# Altium footprint library 3.23-LCC封装.PcbLib: 82 footprints (part 2 of 6)
Each footprint in its own frame and in the unit in brackets; x right, y up, seen from the top. Pads: shape width x height; smd on the part's side, far side on the other; paste and mask are expansions set on the pad; w line width, h text height; cw(c..) or ccw(c..) is an arc to the next point about the centre after c.
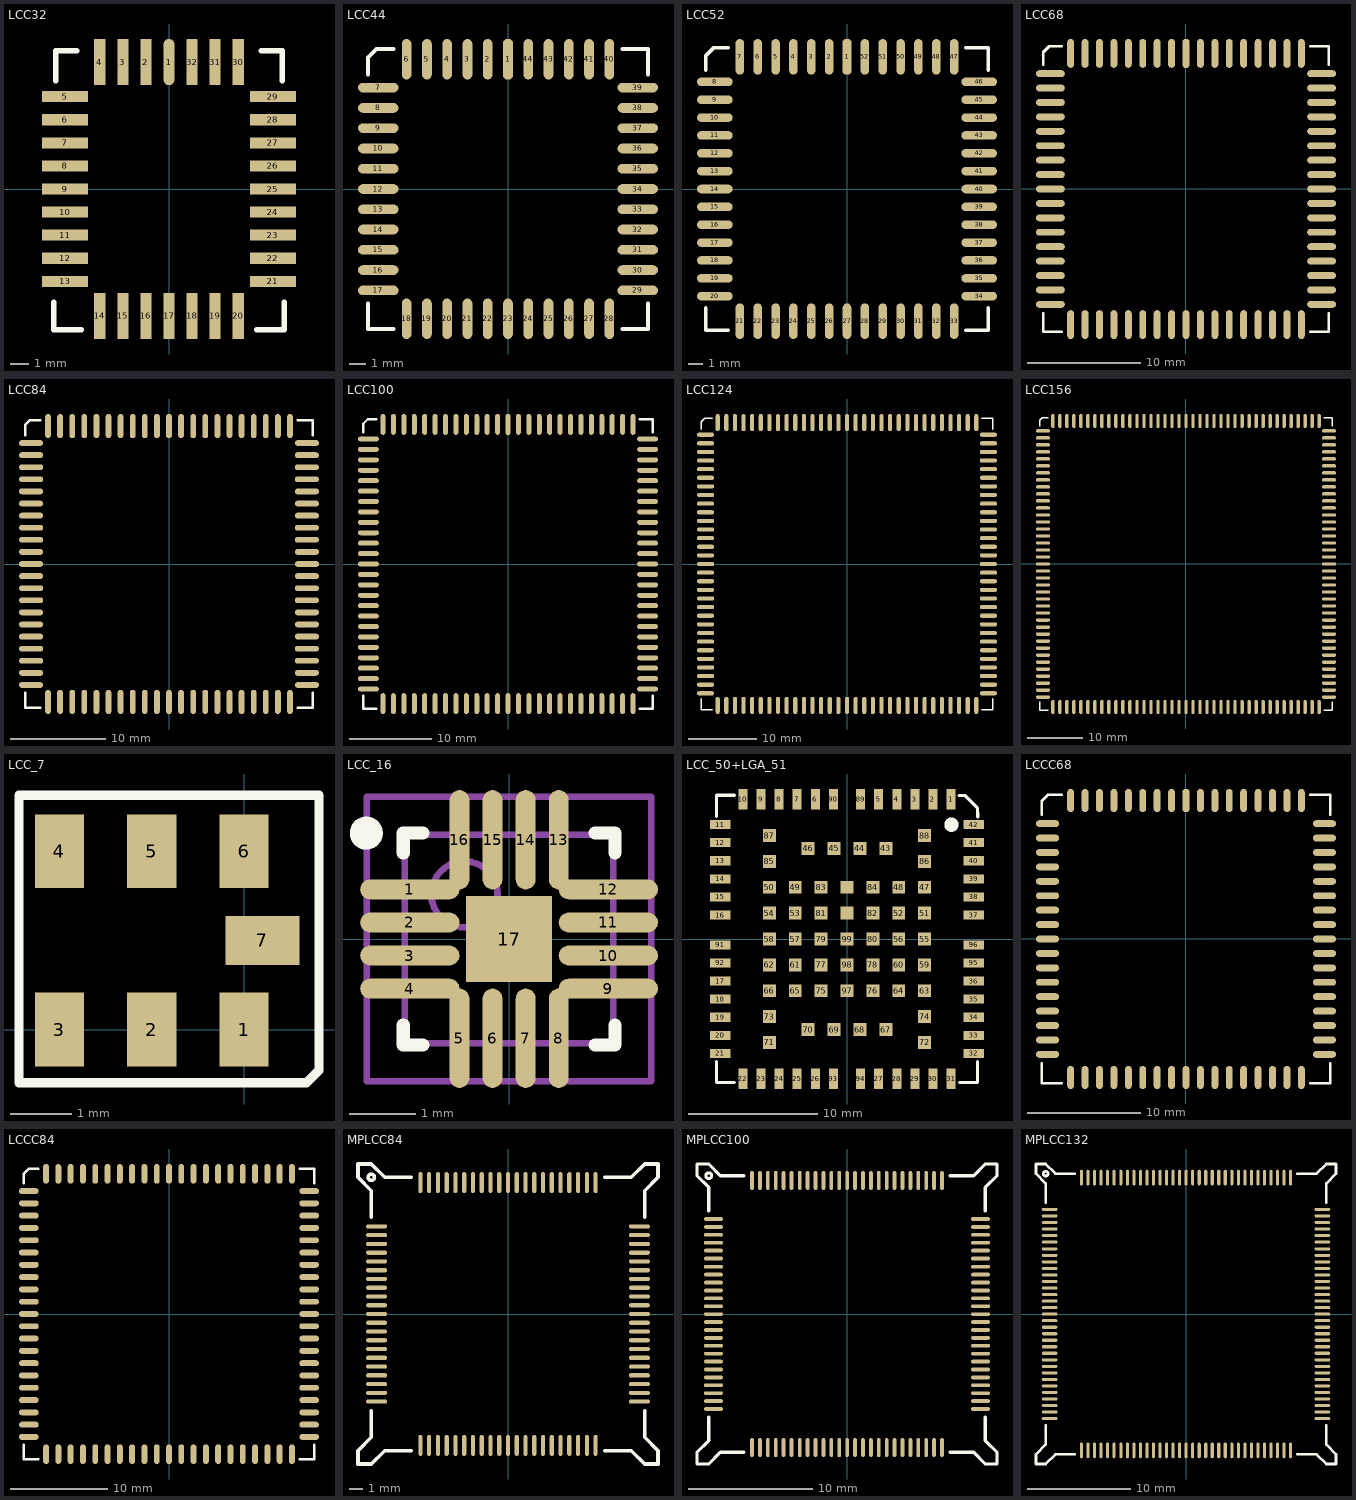
[diagram p1: the footprints below, top view; thin cyan lines are the x and y axes]

## LCC32 [mil]
pads (32):
  oval 24x100 smd: 1(0,275)
  rect 24x100 smd: 2(-50,275) 3(-100,275) 4(-150,275) 14(-150,-275) 15(-100,-275) 16(-50,-275) 17(0,-275) 18(50,-275) 19(100,-275) 20(150,-275) 30(150,275) 31(100,275) 32(50,275)
  rect 100x24 smd: 5(-225,200) 6(-225,150) 7(-225,100) 8(-225,50) 9(-225,0) 10(-225,-50) 11(-225,-100) 12(-225,-150) 13(-225,-200) 21(225,-200) 22(225,-150) 23(225,-100) 24(225,-50) 25(225,0) 26(225,50) 27(225,100) 28(225,150) 29(225,200)
Top Overlay:
  lines w12: -250,-245 -250,-305 -190,-305 ; -245,235 -245,300 -200,300 ; 190,-305 250,-305 250,-245 ; 200,300 245,300 245,235

## LCC44 [mil]
pads (44):
  oct 24x100 smd: 1(0,320)
  oval 24x100 smd: 2(-50,320) 3(-100,320) 4(-150,320) 5(-200,320) 6(-250,320) 18(-250,-320) 19(-200,-320) 20(-150,-320) 21(-100,-320) 22(-50,-320) 23(0,-320) 24(50,-320) 25(100,-320) 26(150,-320) 27(200,-320) 28(250,-320) 40(250,320) 41(200,320) 42(150,320) 43(100,320) 44(50,320)
  oval 100x24 smd: 7(-320,250) 8(-320,200) 9(-320,150) 10(-320,100) 11(-320,50) 12(-320,0) 13(-320,-50) 14(-320,-100) 15(-320,-150) 16(-320,-200) 17(-320,-250) 29(320,-250) 30(320,-200) 31(320,-150) 32(320,-100) 33(320,-50) 34(320,0) 35(320,50) 36(320,100) 37(320,150) 38(320,200) 39(320,250)
Top Overlay:
  lines w10: -345,-282 -345,-345 -282,-345 ; -345,282 -345,324 -324,345 -282,345 ; 282,-345 345,-345 345,-282 ; 282,345 345,345 345,282

## LCC52 [mil]
pads (52):
  oct 24x100 smd: 1(0,370)
  oval 24x100 smd: 2(-50,370) 3(-100,370) 4(-150,370) 5(-200,370) 6(-250,370) 7(-300,370) 21(-300,-370) 22(-250,-370) 23(-200,-370) 24(-150,-370) 25(-100,-370) 26(-50,-370) 27(0,-370) 28(50,-370) 29(100,-370) 30(150,-370) 31(200,-370) 32(250,-370) 33(300,-370) 47(300,370) 48(250,370) 49(200,370) 50(150,370) 51(100,370) 52(50,370)
  oval 100x24 smd: 8(-370,300) 9(-370,250) 10(-370,200) 11(-370,150) 12(-370,100) 13(-370,50) 14(-370,0) 15(-370,-50) 16(-370,-100) 17(-370,-150) 18(-370,-200) 19(-370,-250) 20(-370,-300) 34(370,-300) 35(370,-250) 36(370,-200) 37(370,-150) 38(370,-100) 39(370,-50) 40(370,0) 41(370,50) 42(370,100) 43(370,150) 44(370,200) 45(370,250) 46(370,300)
Top Overlay:
  lines w10: -395,-332 -395,-395 -332,-395 ; -395,332 -395,374 -374,395 -332,395 ; 332,-395 395,-395 395,-332 ; 332,395 395,395 395,332

## LCC68 [mil]
pads (68):
  oct 24x100 smd: 1(0,470)
  oval 24x100 smd: 2(-50,470) 3(-100,470) 4(-150,470) 5(-200,470) 6(-250,470) 7(-300,470) 8(-350,470) 9(-400,470) 27(-400,-470) 28(-350,-470) 29(-300,-470) 30(-250,-470) 31(-200,-470) 32(-150,-470) 33(-100,-470) 34(-50,-470) 35(0,-470) 36(50,-470) 37(100,-470) 38(150,-470) 39(200,-470) 40(250,-470) 41(300,-470) 42(350,-470) 43(400,-470) 61(400,470) 62(350,470) 63(300,470) 64(250,470) 65(200,470) 66(150,470) 67(100,470) 68(50,470)
  oval 100x24 smd: 10(-470,400) 11(-470,350) 12(-470,300) 13(-470,250) 14(-470,200) 15(-470,150) 16(-470,100) 17(-470,50) 18(-470,0) 19(-470,-50) 20(-470,-100) 21(-470,-150) 22(-470,-200) 23(-470,-250) 24(-470,-300) 25(-470,-350) 26(-470,-400) 44(470,-400) 45(470,-350) 46(470,-300) 47(470,-250) 48(470,-200) 49(470,-150) 50(470,-100) 51(470,-50) 52(470,0) 53(470,50) 54(470,100) 55(470,150) 56(470,200) 57(470,250) 58(470,300) 59(470,350) 60(470,400)
Top Overlay:
  lines w10: -495,-432 -495,-495 -432,-495 ; -495,432 -495,474 -474,495 -432,495 ; 432,-495 495,-495 495,-432 ; 432,495 495,495 495,432

## LCC84 [mil]
pads (84):
  oct 24x100 smd: 1(0,570)
  oval 24x100 smd: 2(-50,570) 3(-100,570) 4(-150,570) 5(-200,570) 6(-250,570) 7(-300,570) 8(-350,570) 9(-400,570) 10(-450,570) 11(-500,570) 33(-500,-570) 34(-450,-570) 35(-400,-570) 36(-350,-570) 37(-300,-570) 38(-250,-570) 39(-200,-570) 40(-150,-570) 41(-100,-570) 42(-50,-570) 43(0,-570) 44(50,-570) 45(100,-570) 46(150,-570) 47(200,-570) 48(250,-570) 49(300,-570) 50(350,-570) 51(400,-570) 52(450,-570) 53(500,-570) 75(500,570) 76(450,570) 77(400,570) 78(350,570) 79(300,570) 80(250,570) 81(200,570) 82(150,570) 83(100,570) 84(50,570)
  oval 100x24 smd: 12(-570,500) 13(-570,450) 14(-570,400) 15(-570,350) 16(-570,300) 17(-570,250) 18(-570,200) 19(-570,150) 20(-570,100) 21(-570,50) 22(-570,0) 23(-570,-50) 24(-570,-100) 25(-570,-150) 26(-570,-200) 27(-570,-250) 28(-570,-300) 29(-570,-350) 30(-570,-400) 31(-570,-450) 32(-570,-500) 54(570,-500) 55(570,-450) 56(570,-400) 57(570,-350) 58(570,-300) 59(570,-250) 60(570,-200) 61(570,-150) 62(570,-100) 63(570,-50) 64(570,0) 65(570,50) 66(570,100) 67(570,150) 68(570,200) 69(570,250) 70(570,300) 71(570,350) 72(570,400) 73(570,450) 74(570,500)
Top Overlay:
  lines w10: -595,-532 -595,-595 -532,-595 ; -595,532 -595,574 -574,595 -532,595 ; 532,-595 595,-595 595,-532 ; 532,595 595,595 595,532

## LCC100 [mil]
pads (100):
  oct 24x100 smd: 1(0,670)
  oval 24x100 smd: 2(-50,670) 3(-100,670) 4(-150,670) 5(-200,670) 6(-250,670) 7(-300,670) 8(-350,670) 9(-400,670) 10(-450,670) 11(-500,670) 12(-550,670) 13(-600,670) 39(-600,-670) 40(-550,-670) 41(-500,-670) 42(-450,-670) 43(-400,-670) 44(-350,-670) 45(-300,-670) 46(-250,-670) 47(-200,-670) 48(-150,-670) 49(-100,-670) 50(-50,-670) 51(0,-670) 52(50,-670) 53(100,-670) 54(150,-670) 55(200,-670) 56(250,-670) 57(300,-670) 58(350,-670) 59(400,-670) 60(450,-670) 61(500,-670) 62(550,-670) 63(600,-670) 89(600,670) 90(550,670) 91(500,670) 92(450,670) 93(400,670) 94(350,670) 95(300,670) 96(250,670) 97(200,670) 98(150,670) 99(100,670) 100(50,670)
  oval 100x24 smd: 14(-670,600) 15(-670,550) 16(-670,500) 17(-670,450) 18(-670,400) 19(-670,350) 20(-670,300) 21(-670,250) 22(-670,200) 23(-670,150) 24(-670,100) 25(-670,50) 26(-670,0) 27(-670,-50) 28(-670,-100) 29(-670,-150) 30(-670,-200) 31(-670,-250) 32(-670,-300) 33(-670,-350) 34(-670,-400) 35(-670,-450) 36(-670,-500) 37(-670,-550) 38(-670,-600) 64(670,-600) 65(670,-550) 66(670,-500) 67(670,-450) 68(670,-400) 69(670,-350) 70(670,-300) 71(670,-250) 72(670,-200) 73(670,-150) 74(670,-100) 75(670,-50) 76(670,0) 77(670,50) 78(670,100) 79(670,150) 80(670,200) 81(670,250) 82(670,300) 83(670,350) 84(670,400) 85(670,450) 86(670,500) 87(670,550) 88(670,600)
Top Overlay:
  lines w10: -695,-632 -695,-695 -632,-695 ; -695,632 -695,674 -674,695 -632,695 ; 632,-695 695,-695 695,-632 ; 632,695 695,695 695,632

## LCC124 [mil]
pads (124):
  oct 24x100 smd: 1(0,820)
  oval 24x100 smd: 2(-50,820) 3(-100,820) 4(-150,820) 5(-200,820) 6(-250,820) 7(-300,820) 8(-350,820) 9(-400,820) 10(-450,820) 11(-500,820) 12(-550,820) 13(-600,820) 14(-650,820) 15(-700,820) 16(-750,820) 48(-750,-820) 49(-700,-820) 50(-650,-820) 51(-600,-820) 52(-550,-820) 53(-500,-820) 54(-450,-820) 55(-400,-820) 56(-350,-820) 57(-300,-820) 58(-250,-820) 59(-200,-820) 60(-150,-820) 61(-100,-820) 62(-50,-820) 63(0,-820) 64(50,-820) 65(100,-820) 66(150,-820) 67(200,-820) 68(250,-820) 69(300,-820) 70(350,-820) 71(400,-820) 72(450,-820) 73(500,-820) 74(550,-820) 75(600,-820) 76(650,-820) 77(700,-820) 78(750,-820) 110(750,820) 111(700,820) 112(650,820) 113(600,820) 114(550,820) 115(500,820) 116(450,820) 117(400,820) 118(350,820) 119(300,820) 120(250,820) 121(200,820) 122(150,820) 123(100,820) 124(50,820)
  oval 100x24 smd: 17(-820,750) 18(-820,700) 19(-820,650) 20(-820,600) 21(-820,550) 22(-820,500) 23(-820,450) 24(-820,400) 25(-820,350) 26(-820,300) 27(-820,250) 28(-820,200) 29(-820,150) 30(-820,100) 31(-820,50) 32(-820,0) 33(-820,-50) 34(-820,-100) 35(-820,-150) 36(-820,-200) 37(-820,-250) 38(-820,-300) 39(-820,-350) 40(-820,-400) 41(-820,-450) 42(-820,-500) 43(-820,-550) 44(-820,-600) 45(-820,-650) 46(-820,-700) 47(-820,-750) 79(820,-750) 80(820,-700) 81(820,-650) 82(820,-600) 83(820,-550) 84(820,-500) 85(820,-450) 86(820,-400) 87(820,-350) 88(820,-300) 89(820,-250) 90(820,-200) 91(820,-150) 92(820,-100) 93(820,-50) 94(820,0) 95(820,50) 96(820,100) 97(820,150) 98(820,200) 99(820,250) 100(820,300) 101(820,350) 102(820,400) 103(820,450) 104(820,500) 105(820,550) 106(820,600) 107(820,650) 108(820,700) 109(820,750)
Top Overlay:
  lines w10: -845,-782 -845,-845 -782,-845 ; -845,782 -845,824 -824,845 -782,845 ; 782,-845 845,-845 845,-782 ; 782,845 845,845 845,782

## LCC156 [mil]
pads (156):
  oct 24x100 smd: 1(0,1020)
  oval 24x100 smd: 2(-50,1020) 3(-100,1020) 4(-150,1020) 5(-200,1020) 6(-250,1020) 7(-300,1020) 8(-350,1020) 9(-400,1020) 10(-450,1020) 11(-500,1020) 12(-550,1020) 13(-600,1020) 14(-650,1020) 15(-700,1020) 16(-750,1020) 17(-800,1020) 18(-850,1020) 19(-900,1020) 20(-950,1020) 60(-950,-1020) 61(-900,-1020) 62(-850,-1020) 63(-800,-1020) 64(-750,-1020) 65(-700,-1020) 66(-650,-1020) 67(-600,-1020) 68(-550,-1020) 69(-500,-1020) 70(-450,-1020) 71(-400,-1020) 72(-350,-1020) 73(-300,-1020) 74(-250,-1020) 75(-200,-1020) 76(-150,-1020) 77(-100,-1020) 78(-50,-1020) 79(0,-1020) 80(50,-1020) 81(100,-1020) 82(150,-1020) 83(200,-1020) 84(250,-1020) 85(300,-1020) 86(350,-1020) 87(400,-1020) 88(450,-1020) 89(500,-1020) 90(550,-1020) 91(600,-1020) 92(650,-1020) 93(700,-1020) 94(750,-1020) 95(800,-1020) 96(850,-1020) 97(900,-1020) 98(950,-1020) 138(950,1020) 139(900,1020) 140(850,1020) 141(800,1020) 142(750,1020) 143(700,1020) 144(650,1020) 145(600,1020) 146(550,1020) 147(500,1020) 148(450,1020) 149(400,1020) 150(350,1020) 151(300,1020) 152(250,1020) 153(200,1020) 154(150,1020) 155(100,1020) 156(50,1020)
  oval 100x24 smd: 21(-1020,950) 22(-1020,900) 23(-1020,850) 24(-1020,800) 25(-1020,750) 26(-1020,700) 27(-1020,650) 28(-1020,600) 29(-1020,550) 30(-1020,500) 31(-1020,450) 32(-1020,400) 33(-1020,350) 34(-1020,300) 35(-1020,250) 36(-1020,200) 37(-1020,150) 38(-1020,100) 39(-1020,50) 40(-1020,0) 41(-1020,-50) 42(-1020,-100) 43(-1020,-150) 44(-1020,-200) 45(-1020,-250) 46(-1020,-300) 47(-1020,-350) 48(-1020,-400) 49(-1020,-450) 50(-1020,-500) 51(-1020,-550) 52(-1020,-600) 53(-1020,-650) 54(-1020,-700) 55(-1020,-750) 56(-1020,-800) 57(-1020,-850) 58(-1020,-900) 59(-1020,-950) 99(1020,-950) 100(1020,-900) 101(1020,-850) 102(1020,-800) 103(1020,-750) 104(1020,-700) 105(1020,-650) 106(1020,-600) 107(1020,-550) 108(1020,-500) 109(1020,-450) 110(1020,-400) 111(1020,-350) 112(1020,-300) 113(1020,-250) 114(1020,-200) 115(1020,-150) 116(1020,-100) 117(1020,-50) 118(1020,0) 119(1020,50) 120(1020,100) 121(1020,150) 122(1020,200) 123(1020,250) 124(1020,300) 125(1020,350) 126(1020,400) 127(1020,450) 128(1020,500) 129(1020,550) 130(1020,600) 131(1020,650) 132(1020,700) 133(1020,750) 134(1020,800) 135(1020,850) 136(1020,900) 137(1020,950)
Top Overlay:
  lines w10: -1045,-982 -1045,-1045 -982,-1045 ; -1045,982 -1045,1024 -1024,1045 -982,1045 ; 982,-1045 1045,-1045 1045,-982 ; 982,1045 1045,1045 1045,982

## LCC_7 [mm]
pads (7):
  rect 0.8x1.2 smd: 1(0,0) 2(-1.5,0) 3(-3,0) 4(-3,2.9) 5(-1.5,2.9) 6(0,2.9)
  rect 1.2x0.8 smd: 7(0.3,1.45)
Top Overlay:
  lines w0.15: -3.658,-0.864 1.016,-0.864 1.219,-0.66 1.219,3.81 -3.658,3.81 -3.658,-0.864

## LCC_16 [mm]
pads (17):
  oval 1.5x0.3 smd: 1(-1.5,0.75) 2(-1.5,0.25) 3(-1.5,-0.25) 4(-1.5,-0.75) 9(1.5,-0.75) 10(1.5,-0.25) 11(1.5,0.25) 12(1.5,0.75)
  oval 0.3x1.5 smd: 5(-0.75,-1.5) 6(-0.25,-1.5) 7(0.25,-1.5) 8(0.75,-1.5) 13(0.75,1.5) 14(0.25,1.5) 15(-0.25,1.5) 16(-0.75,1.5)
  rect 1.3x1.3 smd: 17(0,0)
Top Overlay:
  circle w0.25: c-2.159,1.6 r0.125
  lines w0.2: -1.6,-1.3 -1.6,-1.6 -1.3,-1.6 ; -1.6,1.3 -1.6,1.6 -1.3,1.6 ; 1.3,-1.6 1.6,-1.6 1.6,-1.3 ; 1.3,1.6 1.6,1.6 1.6,1.3
Mechanical 13:
  circle w0.1: c-0.675,0.675 r0.5
  lines w0.1: -1.575,-1.575 -1.575,1.575 1.575,1.575 1.575,-1.575 -1.575,-1.575
Mechanical 15:
  lines w0.1: -0.5,0 0.5,0 ; 0,-0.5 0,0.5 ; -2.15,-2.15 -2.15,2.15 2.15,2.15 2.15,-2.15 -2.15,-2.15
3D body: height 1, standoff 0, extent -1.575,-1.575 1.575,1.575

## LCC_50+LGA_51 [mm] "适用于MC615系列CAT1模组"
height 0.3
pads (101):
  rect 0.7x1.6 smd mask+0.05: 1(8.05,10.8) 2(6.65,10.8) 3(5.25,10.8) 4(3.85,10.8) 5(2.45,10.8) 6(-2.45,10.8) 7(-3.85,10.8) 8(-5.25,10.8) 9(-6.65,10.8) 10(-8.05,10.8) 22(-8.05,-10.8) 23(-6.65,-10.8) 24(-5.25,-10.8) 25(-3.85,-10.8) 26(-2.45,-10.8) 27(2.45,-10.8) 28(3.85,-10.8) 29(5.25,-10.8) 30(6.65,-10.8) 31(8.05,-10.8) 89(1.05,10.8) 90(-1.05,10.8) 93(-1.05,-10.8) 94(1.05,-10.8)
  rect 1.6x0.7 smd mask+0.05: 11(-9.8,8.85) 12(-9.8,7.45) 13(-9.8,6.05) 14(-9.8,4.65) 15(-9.8,3.25) 16(-9.8,1.85) 17(-9.8,-3.25) 18(-9.8,-4.65) 19(-9.8,-6.05) 20(-9.8,-7.45) 21(-9.8,-8.85) 32(9.8,-8.85) 33(9.8,-7.45) 34(9.8,-6.05) 35(9.8,-4.65) 36(9.8,-3.25) 37(9.8,1.85) 38(9.8,3.25) 39(9.8,4.65) 40(9.8,6.05) 41(9.8,7.45) 42(9.8,8.85) 91(-9.8,-0.45) 92(-9.8,-1.85) 95(9.8,-1.85) 96(9.8,-0.45)
  rect 1x1 smd mask+0.05: 43(3,7) 44(1,7) 45(-1,7) 46(-3,7) 47(6,4) 48(4,4) 49(-4,4) 50(-6,4) 51(6,2) 52(4,2) 53(-4,2) 54(-6,2) 55(6,0) 56(4,0) 57(-4,0) 58(-6,0) 59(6,-2) 60(4,-2) 61(-4,-2) 62(-6,-2) 63(6,-4) 64(4,-4) 65(-4,-4) 66(-6,-4) 67(3,-7) 68(1,-7) 69(-1,-7) 70(-3,-7) 71(-6,-8) 72(6,-8) 73(-6,-6) 74(6,-6) 75(-2,-4) 76(2,-4) 77(-2,-2) 78(2,-2) 79(-2,0) 80(2,0) 81(-2,2) 82(2,2) 83(-2,4) 84(2,4) 85(-6,6) 86(6,6) 87(-6,8) 88(6,8) 97(0,-4) 98(0,-2) 99(0,0) 100(0,2) 101(0,4)
Top Overlay:
  circle w0.6: c8.077,8.839 r0.25
  lines w0.254: -10.1,-9.474 -10.1,-11.1 -8.712,-11.1 ; -10.1,9.5 -10.1,11.125 -8.712,11.125 ; 8.661,11.1 9.1,11.1 ; 8.712,-11.1 10.1,-11.1 10.1,-9.474 ; 10.106,9.449 10.1,10.1 ; 9.1,11.1 10.1,10.1 ; 9.1,11.1 10.1,10.1

## LCCC68 [mil]
pads (68):
  oct 24x80 smd: 1(0,480)
  oval 24x80 smd: 2(-50,480) 3(-100,480) 4(-150,480) 5(-200,480) 6(-250,480) 7(-300,480) 8(-350,480) 9(-400,480) 27(-400,-480) 28(-350,-480) 29(-300,-480) 30(-250,-480) 31(-200,-480) 32(-150,-480) 33(-100,-480) 34(-50,-480) 35(0,-480) 36(50,-480) 37(100,-480) 38(150,-480) 39(200,-480) 40(250,-480) 41(300,-480) 42(350,-480) 43(400,-480) 61(400,480) 62(350,480) 63(300,480) 64(250,480) 65(200,480) 66(150,480) 67(100,480) 68(50,480)
  oval 80x24 smd: 10(-480,400) 11(-480,350) 12(-480,300) 13(-480,250) 14(-480,200) 15(-480,150) 16(-480,100) 17(-480,50) 18(-480,0) 19(-480,-50) 20(-480,-100) 21(-480,-150) 22(-480,-200) 23(-480,-250) 24(-480,-300) 25(-480,-350) 26(-480,-400) 44(480,-400) 45(480,-350) 46(480,-300) 47(480,-250) 48(480,-200) 49(480,-150) 50(480,-100) 51(480,-50) 52(480,0) 53(480,50) 54(480,100) 55(480,150) 56(480,200) 57(480,250) 58(480,300) 59(480,350) 60(480,400)
Top Overlay:
  lines w10: -500,-432 -500,-500 -432,-500 ; -500,432 -500,478 -478,500 -432,500 ; 432,-500 500,-500 500,-432 ; 432,500 500,500 500,432

## LCCC84 [mil]
pads (84):
  oct 24x80 smd: 1(0,570)
  oval 24x80 smd: 2(-50,570) 3(-100,570) 4(-150,570) 5(-200,570) 6(-250,570) 7(-300,570) 8(-350,570) 9(-400,570) 10(-450,570) 11(-500,570) 33(-500,-570) 34(-450,-570) 35(-400,-570) 36(-350,-570) 37(-300,-570) 38(-250,-570) 39(-200,-570) 40(-150,-570) 41(-100,-570) 42(-50,-570) 43(0,-570) 44(50,-570) 45(100,-570) 46(150,-570) 47(200,-570) 48(250,-570) 49(300,-570) 50(350,-570) 51(400,-570) 52(450,-570) 53(500,-570) 75(500,570) 76(450,570) 77(400,570) 78(350,570) 79(300,570) 80(250,570) 81(200,570) 82(150,570) 83(100,570) 84(50,570)
  oval 80x24 smd: 12(-570,500) 13(-570,450) 14(-570,400) 15(-570,350) 16(-570,300) 17(-570,250) 18(-570,200) 19(-570,150) 20(-570,100) 21(-570,50) 22(-570,0) 23(-570,-50) 24(-570,-100) 25(-570,-150) 26(-570,-200) 27(-570,-250) 28(-570,-300) 29(-570,-350) 30(-570,-400) 31(-570,-450) 32(-570,-500) 54(570,-500) 55(570,-450) 56(570,-400) 57(570,-350) 58(570,-300) 59(570,-250) 60(570,-200) 61(570,-150) 62(570,-100) 63(570,-50) 64(570,0) 65(570,50) 66(570,100) 67(570,150) 68(570,200) 69(570,250) 70(570,300) 71(570,350) 72(570,400) 73(570,450) 74(570,500)
Top Overlay:
  lines w10: -590,-532 -590,-590 -532,-590 ; -590,532 -590,571 -571,590 -532,590 ; 532,-590 590,-590 590,-532 ; 532,590 590,590 590,532

## MPLCC84 [mil]
pads (84):
  oval 12x60 smd: 1(0,375) 2(-25,375) 3(-50,375) 4(-75,375) 5(-100,375) 6(-125,375) 7(-150,375) 8(-175,375) 9(-200,375) 10(-225,375) 11(-250,375) 33(-250,-375) 34(-225,-375) 35(-200,-375) 36(-175,-375) 37(-150,-375) 38(-125,-375) 39(-100,-375) 40(-75,-375) 41(-50,-375) 42(-25,-375) 43(0,-375) 44(25,-375) 45(50,-375) 46(75,-375) 47(100,-375) 48(125,-375) 49(150,-375) 50(175,-375) 51(200,-375) 52(225,-375) 53(250,-375) 75(250,375) 76(225,375) 77(200,375) 78(175,375) 79(150,375) 80(125,375) 81(100,375) 82(75,375) 83(50,375) 84(25,375)
  oval 60x12 smd: 12(-375,250) 13(-375,225) 14(-375,200) 15(-375,175) 16(-375,150) 17(-375,125) 18(-375,100) 19(-375,75) 20(-375,50) 21(-375,25) 22(-375,0) 23(-375,-25) 24(-375,-50) 25(-375,-75) 26(-375,-100) 27(-375,-125) 28(-375,-150) 29(-375,-175) 30(-375,-200) 31(-375,-225) 32(-375,-250) 54(375,-250) 55(375,-225) 56(375,-200) 57(375,-175) 58(375,-150) 59(375,-125) 60(375,-100) 61(375,-75) 62(375,-50) 63(375,-25) 64(375,0) 65(375,25) 66(375,50) 67(375,75) 68(375,100) 69(375,125) 70(375,150) 71(375,175) 72(375,200) 73(375,225) 74(375,250)
Top Overlay:
  circle w10: c-390,390 r9
  lines w10: -390,-276 -390,-352 -428,-390 -428,-428 -390,-428 -352,-390 -276,-390 ; -390,276 -390,352 -428,390 -428,428 -390,428 -352,390 -276,390 ; 276,-390 352,-390 390,-428 428,-428 428,-390 390,-352 390,-276 ; 276,390 352,390 390,428 428,428 428,390 390,352 390,276

## MPLCC100 [mil]
pads (100):
  oval 12x60 smd: 1(0.5,422.5) 2(-24.5,422.5) 3(-49.5,422.5) 4(-74.5,422.5) 5(-99.5,422.5) 6(-124.5,422.5) 7(-149.5,422.5) 8(-175.5,422.5) 9(-200.5,422.5) 10(-225.5,422.5) 11(-250.5,422.5) 12(-275.5,422.5) 13(-300.5,422.5) 39(-300.5,-422.5) 40(-275.5,-422.5) 41(-250.5,-422.5) 42(-225.5,-422.5) 43(-200.5,-422.5) 44(-175.5,-422.5) 45(-149.5,-422.5) 46(-124.5,-422.5) 47(-99.5,-422.5) 48(-74.5,-422.5) 49(-49.5,-422.5) 50(-24.5,-422.5) 51(0.5,-422.5) 52(25.5,-422.5) 53(50.5,-422.5) 54(75.5,-422.5) 55(100.5,-422.5) 56(125.5,-422.5) 57(150.5,-422.5) 58(175.5,-422.5) 59(200.5,-422.5) 60(225.5,-422.5) 61(250.5,-422.5) 62(275.5,-422.5) 63(300.5,-422.5) 89(300.5,422.5) 90(275.5,422.5) 91(250.5,422.5) 92(225.5,422.5) 93(200.5,422.5) 94(175.5,422.5) 95(150.5,422.5) 96(125.5,422.5) 97(100.5,422.5) 98(75.5,422.5) 99(50.5,422.5) 100(25.5,422.5)
  oval 60x12 smd: 14(-422.5,300.5) 15(-422.5,275.5) 16(-422.5,250.5) 17(-422.5,225.5) 18(-422.5,200.5) 19(-422.5,175.5) 20(-422.5,149.5) 21(-422.5,124.5) 22(-422.5,99.5) 23(-422.5,74.5) 24(-422.5,49.5) 25(-422.5,24.5) 26(-422.5,-0.5) 27(-422.5,-25.5) 28(-422.5,-50.5) 29(-422.5,-75.5) 30(-422.5,-100.5) 31(-422.5,-125.5) 32(-422.5,-150.5) 33(-422.5,-175.5) 34(-422.5,-200.5) 35(-422.5,-225.5) 36(-422.5,-250.5) 37(-422.5,-275.5) 38(-422.5,-300.5) 64(422.5,-300.5) 65(422.5,-275.5) 66(422.5,-250.5) 67(422.5,-225.5) 68(422.5,-200.5) 69(422.5,-175.5) 70(422.5,-150.5) 71(422.5,-125.5) 72(422.5,-100.5) 73(422.5,-75.5) 74(422.5,-50.5) 75(422.5,-25.5) 76(422.5,-0.5) 77(422.5,24.5) 78(422.5,49.5) 79(422.5,74.5) 80(422.5,99.5) 81(422.5,124.5) 82(422.5,149.5) 83(422.5,175.5) 84(422.5,200.5) 85(422.5,225.5) 86(422.5,250.5) 87(422.5,275.5) 88(422.5,300.5)
Top Overlay:
  circle w10: c-437.5,437.5 r9
  lines w10: -437.5,-326.5 -437.5,-400.5 -474.5,-437.5 -474.5,-474.5 -437.5,-474.5 -400.5,-437.5 -326.5,-437.5 ; -437.5,326.5 -437.5,400.5 -474.5,437.5 -474.5,474.5 -437.5,474.5 -400.5,437.5 -326.5,437.5 ; 326.5,-437.5 400.5,-437.5 437.5,-474.5 474.5,-474.5 474.5,-437.5 437.5,-400.5 437.5,-326.5 ; 326.5,437.5 400.5,437.5 437.5,474.5 474.5,474.5 474.5,437.5 437.5,400.5 437.5,326.5

## MPLCC132 [mil]
pads (132):
  oval 12x60 smd: 1(0.5,522.5) 2(-24.5,522.5) 3(-49.5,522.5) 4(-74.5,522.5) 5(-99.5,522.5) 6(-124.5,522.5) 7(-149.5,522.5) 8(-174.5,522.5) 9(-199.5,522.5) 10(-224.5,522.5) 11(-249.5,522.5) 12(-275.5,522.5) 13(-300.5,522.5) 14(-325.5,522.5) 15(-350.5,522.5) 16(-375.5,522.5) 17(-400.5,522.5) 51(-400.5,-522.5) 52(-375.5,-522.5) 53(-350.5,-522.5) 54(-325.5,-522.5) 55(-300.5,-522.5) 56(-275.5,-522.5) 57(-249.5,-522.5) 58(-224.5,-522.5) 59(-199.5,-522.5) 60(-174.5,-522.5) 61(-149.5,-522.5) 62(-124.5,-522.5) 63(-99.5,-522.5) 64(-74.5,-522.5) 65(-49.5,-522.5) 66(-24.5,-522.5) 67(0.5,-522.5) 68(25.5,-522.5) 69(50.5,-522.5) 70(75.5,-522.5) 71(100.5,-522.5) 72(125.5,-522.5) 73(150.5,-522.5) 74(175.5,-522.5) 75(200.5,-522.5) 76(225.5,-522.5) 77(250.5,-522.5) 78(275.5,-522.5) 79(300.5,-522.5) 80(325.5,-522.5) 81(350.5,-522.5) 82(375.5,-522.5) 83(400.5,-522.5) 117(400.5,522.5) 118(375.5,522.5) 119(350.5,522.5) 120(325.5,522.5) 121(300.5,522.5) 122(275.5,522.5) 123(250.5,522.5) 124(225.5,522.5) 125(200.5,522.5) 126(175.5,522.5) 127(150.5,522.5) 128(125.5,522.5) 129(100.5,522.5) 130(75.5,522.5) 131(50.5,522.5) 132(25.5,522.5)
  oval 60x12 smd: 18(-522.5,400.5) 19(-522.5,375.5) 20(-522.5,350.5) 21(-522.5,325.5) 22(-522.5,300.5) 23(-522.5,275.5) 24(-522.5,249.5) 25(-522.5,224.5) 26(-522.5,199.5) 27(-522.5,174.5) 28(-522.5,149.5) 29(-522.5,124.5) 30(-522.5,99.5) 31(-522.5,74.5) 32(-522.5,49.5) 33(-522.5,24.5) 34(-522.5,-0.5) 35(-522.5,-25.5) 36(-522.5,-50.5) 37(-522.5,-75.5) 38(-522.5,-100.5) 39(-522.5,-125.5) 40(-522.5,-150.5) 41(-522.5,-175.5) 42(-522.5,-200.5) 43(-522.5,-225.5) 44(-522.5,-250.5) 45(-522.5,-275.5) 46(-522.5,-300.5) 47(-522.5,-325.5) 48(-522.5,-350.5) 49(-522.5,-375.5) 50(-522.5,-400.5) 84(522.5,-400.5) 85(522.5,-375.5) 86(522.5,-350.5) 87(522.5,-325.5) 88(522.5,-300.5) 89(522.5,-275.5) 90(522.5,-250.5) 91(522.5,-225.5) 92(522.5,-200.5) 93(522.5,-175.5) 94(522.5,-150.5) 95(522.5,-125.5) 96(522.5,-100.5) 97(522.5,-75.5) 98(522.5,-50.5) 99(522.5,-25.5) 100(522.5,-0.5) 101(522.5,24.5) 102(522.5,49.5) 103(522.5,74.5) 104(522.5,99.5) 105(522.5,124.5) 106(522.5,149.5) 107(522.5,174.5) 108(522.5,199.5) 109(522.5,224.5) 110(522.5,249.5) 111(522.5,275.5) 112(522.5,300.5) 113(522.5,325.5) 114(522.5,350.5) 115(522.5,375.5) 116(522.5,400.5)
Top Overlay:
  circle w10: c-537.5,537.5 r9
  lines w10: -537.5,-426.5 -537.5,-500.5 -574.5,-537.5 -574.5,-574.5 -537.5,-574.5 -500.5,-537.5 -426.5,-537.5 ; -537.5,426.5 -537.5,500.5 -574.5,537.5 -574.5,574.5 -537.5,574.5 -500.5,537.5 -426.5,537.5 ; 426.5,-537.5 500.5,-537.5 537.5,-574.5 574.5,-574.5 574.5,-537.5 537.5,-500.5 537.5,-426.5 ; 426.5,537.5 500.5,537.5 537.5,574.5 574.5,574.5 574.5,537.5 537.5,500.5 537.5,426.5